# Altium integrated library Xilinx Spartan-3 FPGA.IntLib: 1115 symbols (part 3 of 7)
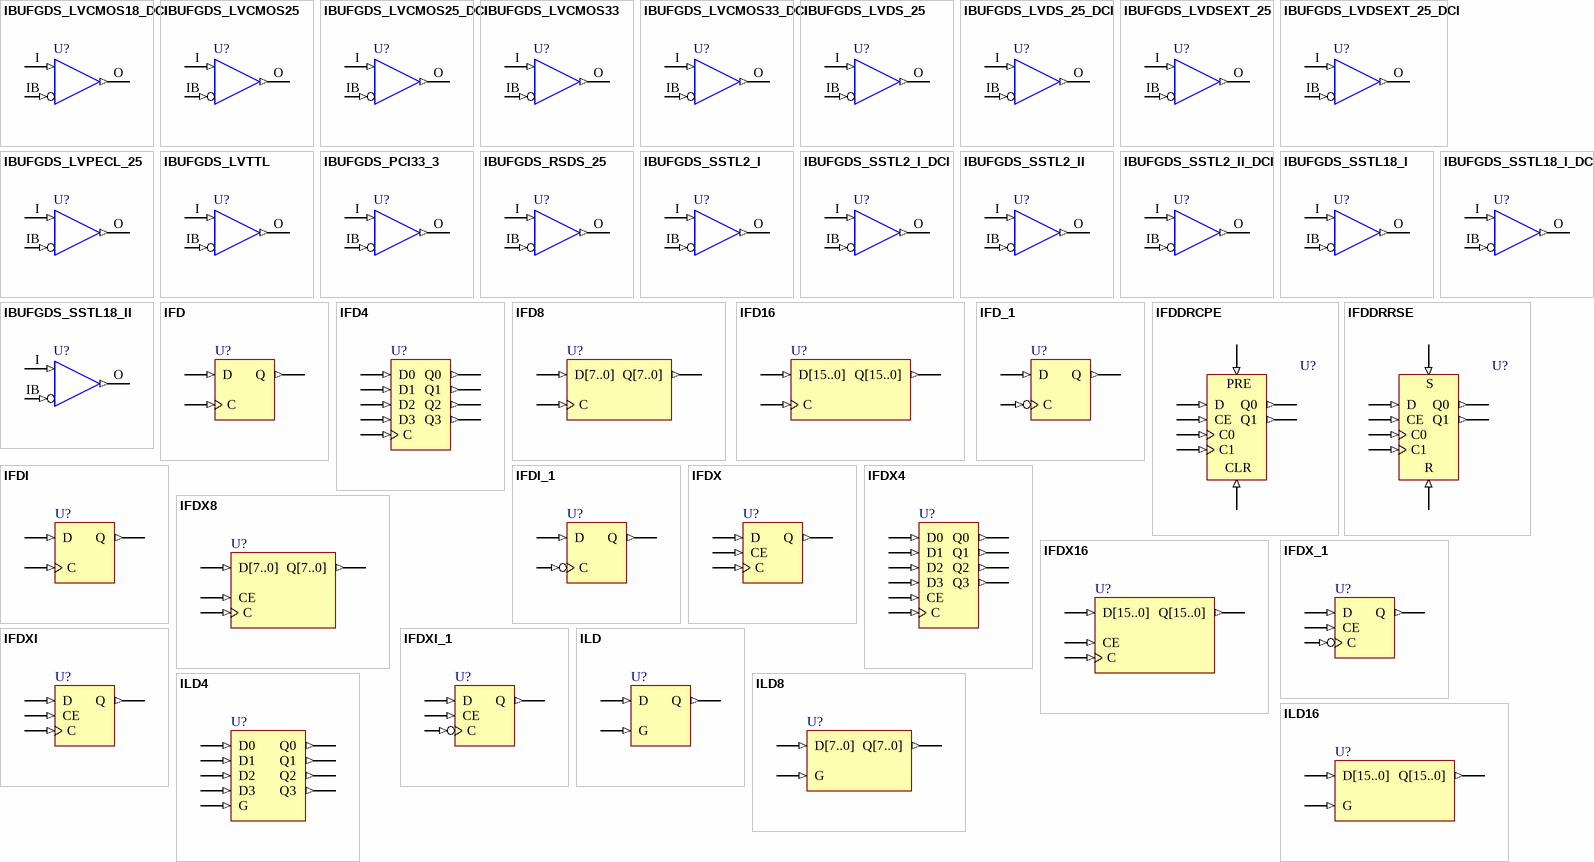
[diagram p30: symbols IBUFGDS_LVCMOS18_DCI to ILD16]

## IBUFGDS_LVPECL_25
designator U?
Dedicated Differential Signaling Input Buffer with Selectable I/O Interface; FPGAVendor: Xilinx; Published: 15-Sep-2008; Publisher: Altium Limited; HelpURL: http://www.xilinx.com/support/documentation/data_sheets/ds099.pdf
pins: I (in), IB (in), O (out)

## IBUFGDS_LVTTL
designator U?
Dedicated Differential Signaling Input Buffer with Selectable I/O Interface; FPGAVendor: Xilinx; Published: 15-Sep-2008; Publisher: Altium Limited; HelpURL: http://www.xilinx.com/support/documentation/data_sheets/ds099.pdf
pins: I (in), IB (in), O (out)

## IBUFGDS_PCI33_3
designator U?
Dedicated Differential Signaling Input Buffer with Selectable I/O Interface; FPGAVendor: Xilinx; Published: 15-Sep-2008; Publisher: Altium Limited; HelpURL: http://www.xilinx.com/support/documentation/data_sheets/ds099.pdf
pins: I (in), IB (in), O (out)

## IBUFGDS_RSDS_25
designator U?
Dedicated Differential Signaling Input Buffer with Selectable I/O Interface; FPGAVendor: Xilinx; Published: 15-Sep-2008; Publisher: Altium Limited; HelpURL: http://www.xilinx.com/support/documentation/data_sheets/ds099.pdf
pins: I (in), IB (in), O (out)

## IBUFGDS_SSTL2_I
designator U?
Dedicated Differential Signaling Input Buffer with Selectable I/O Interface; FPGAVendor: Xilinx; Published: 15-Sep-2008; Publisher: Altium Limited; HelpURL: http://www.xilinx.com/support/documentation/data_sheets/ds099.pdf
pins: I (in), IB (in), O (out)

## IBUFGDS_SSTL2_I_DCI
designator U?
Dedicated Differential Signaling Input Buffer with Selectable I/O Interface; FPGAVendor: Xilinx; Published: 15-Sep-2008; Publisher: Altium Limited; HelpURL: http://www.xilinx.com/support/documentation/data_sheets/ds099.pdf
pins: I (in), IB (in), O (out)

## IBUFGDS_SSTL2_II
designator U?
Dedicated Differential Signaling Input Buffer with Selectable I/O Interface; FPGAVendor: Xilinx; Published: 15-Sep-2008; Publisher: Altium Limited; HelpURL: http://www.xilinx.com/support/documentation/data_sheets/ds099.pdf
pins: I (in), IB (in), O (out)

## IBUFGDS_SSTL2_II_DCI
designator U?
Dedicated Differential Signaling Input Buffer with Selectable I/O Interface; FPGAVendor: Xilinx; Published: 15-Sep-2008; Publisher: Altium Limited; HelpURL: http://www.xilinx.com/support/documentation/data_sheets/ds099.pdf
pins: I (in), IB (in), O (out)

## IBUFGDS_SSTL18_I
designator U?
Dedicated Differential Signaling Input Buffer with Selectable I/O Interface; FPGAVendor: Xilinx; Published: 15-Sep-2008; Publisher: Altium Limited; HelpURL: http://www.xilinx.com/support/documentation/data_sheets/ds099.pdf
pins: I (in), IB (in), O (out)

## IBUFGDS_SSTL18_I_DCI
designator U?
Dedicated Differential Signaling Input Buffer with Selectable I/O Interface; FPGAVendor: Xilinx; Published: 15-Sep-2008; Publisher: Altium Limited; HelpURL: http://www.xilinx.com/support/documentation/data_sheets/ds099.pdf
pins: I (in), IB (in), O (out)

## IBUFGDS_SSTL18_II
designator U?
Dedicated Differential Signaling Input Buffer with Selectable I/O Interface; FPGAVendor: Xilinx; Published: 15-Sep-2008; Publisher: Altium Limited; HelpURL: http://www.xilinx.com/support/documentation/data_sheets/ds099.pdf
pins: I (in), IB (in), O (out)

## IFD
designator U?
Single-Input D Flip-Flop; FPGAVendor: Xilinx; Published: 15-Sep-2003; Publisher: Altium Limited; HelpURL: http://toolbox.xilinx.com/docsan/xilinx7/books/docs/lib/lib.pdf
pins: C (in), D (in), Q (out)

## IFD4
designator U?
Multiple-Input D Flip-Flop; FPGAVendor: Xilinx; Published: 15-Sep-2003; Publisher: Altium Limited; HelpURL: http://toolbox.xilinx.com/docsan/xilinx7/books/docs/lib/lib.pdf
pins: C (in), D0 (in), D1 (in), D2 (in), D3 (in), Q0 (out), Q1 (out), Q2 (out), Q3 (out)

## IFD8
designator U?
Multiple-Input D Flip-Flop; FPGAVendor: Xilinx; Published: 15-Sep-2003; Publisher: Altium Limited; HelpURL: http://toolbox.xilinx.com/docsan/xilinx7/books/docs/lib/lib.pdf
pins: C (in), D[7..0] (in), Q[7..0] (out)

## IFD16
designator U?
Multiple-Input D Flip-Flop; FPGAVendor: Xilinx; Published: 15-Sep-2003; Publisher: Altium Limited; HelpURL: http://toolbox.xilinx.com/docsan/xilinx7/books/docs/lib/lib.pdf
pins: C (in), D[15..0] (in), Q[15..0] (out)

## IFD_1
designator U?
Input D Flip-Flop with Inverted Clock; FPGAVendor: Xilinx; Published: 15-Sep-2003; Publisher: Altium Limited; HelpURL: http://toolbox.xilinx.com/docsan/xilinx7/books/docs/lib/lib.pdf
pins: C (in), D (in), Q (out)

## IFDDRCPE
designator U?
Dual Data Rate Input D Flip-Flop with Clock Enable and Asynchronous Preset and Clear; FPGAVendor: Xilinx; Published: 15-Sep-2003; Publisher: Altium Limited; HelpURL: http://toolbox.xilinx.com/docsan/xilinx7/books/docs/lib/lib.pdf
pins: C0 (in), C1 (in), CE (in), CLR (in), D (in), PRE (in), Q0 (out), Q1 (out)

## IFDDRRSE
designator U?
Dual Data Rate Input D Flip-Flop with Synchronous Reset and Set and Clock Enable; FPGAVendor: Xilinx; Published: 15-Sep-2003; Publisher: Altium Limited; HelpURL: http://toolbox.xilinx.com/docsan/xilinx7/books/docs/lib/lib.pdf
pins: C0 (in), C1 (in), CE (in), D (in), Q0 (out), Q1 (out), R (in), S (in)

## IFDI
designator U?
Input D Flip-Flop (Asynchronous Preset); FPGAVendor: Xilinx; Published: 15-Sep-2003; Publisher: Altium Limited; HelpURL: http://toolbox.xilinx.com/docsan/xilinx7/books/docs/lib/lib.pdf
pins: C (in), D (in), Q (out)

## IFDI_1
designator U?
Input D Flip-Flop with Inverted Clock (Asynchronous Preset); FPGAVendor: Xilinx; Published: 15-Sep-2003; Publisher: Altium Limited; HelpURL: http://toolbox.xilinx.com/docsan/xilinx7/books/docs/lib/lib.pdf
pins: C (in), D (in), Q (out)

## IFDX
designator U?
Single-Input D Flip-Flop with Clock Enable; FPGAVendor: Xilinx; Published: 15-Sep-2003; Publisher: Altium Limited; HelpURL: http://toolbox.xilinx.com/docsan/xilinx7/books/docs/lib/lib.pdf
pins: C (in), CE (in), D (in), Q (out)

## IFDX4
designator U?
Multiple-Input D Flip-Flop with Clock Enable; FPGAVendor: Xilinx; Published: 15-Sep-2003; Publisher: Altium Limited; HelpURL: http://toolbox.xilinx.com/docsan/xilinx7/books/docs/lib/lib.pdf
pins: C (in), CE (in), D0 (in), D1 (in), D2 (in), D3 (in), Q0 (out), Q1 (out), Q2 (out), Q3 (out)

## IFDX8
designator U?
Multiple-Input D Flip-Flop with Clock Enable; FPGAVendor: Xilinx; Published: 15-Sep-2003; Publisher: Altium Limited; HelpURL: http://toolbox.xilinx.com/docsan/xilinx7/books/docs/lib/lib.pdf
pins: C (in), CE (in), D[7..0] (in), Q[7..0] (out)

## IFDX16
designator U?
Multiple-Input D Flip-Flop with Clock Enable; FPGAVendor: Xilinx; Published: 15-Sep-2003; Publisher: Altium Limited; HelpURL: http://toolbox.xilinx.com/docsan/xilinx7/books/docs/lib/lib.pdf
pins: C (in), CE (in), D[15..0] (in), Q[15..0] (out)

## IFDX_1
designator U?
Input D Flip-Flop with Inverted Clock and Clock Enable; FPGAVendor: Xilinx; Published: 15-Sep-2003; Publisher: Altium Limited; HelpURL: http://toolbox.xilinx.com/docsan/xilinx7/books/docs/lib/lib.pdf
pins: C (in), CE (in), D (in), Q (out)

## IFDXI
designator U?
Input D Flip-Flop with Clock Enable (Asynchronous Preset); FPGAVendor: Xilinx; Published: 15-Sep-2003; Publisher: Altium Limited; HelpURL: http://toolbox.xilinx.com/docsan/xilinx7/books/docs/lib/lib.pdf
pins: C (in), CE (in), D (in), Q (out)

## IFDXI_1
designator U?
Input D Flip-Flop with Inverted Clock and Clock Enable (Asynchronous Preset); FPGAVendor: Xilinx; Published: 15-Sep-2003; Publisher: Altium Limited; HelpURL: http://toolbox.xilinx.com/docsan/xilinx7/books/docs/lib/lib.pdf
pins: C (in), CE (in), D (in), Q (out)

## ILD
designator U?
Transparent Input Data Latch; FPGAVendor: Xilinx; Published: 15-Sep-2003; Publisher: Altium Limited; HelpURL: http://toolbox.xilinx.com/docsan/xilinx7/books/docs/lib/lib.pdf
pins: D (in), G (in), Q (out)

## ILD4
designator U?
Transparent Input Data Latch; FPGAVendor: Xilinx; Published: 15-Sep-2003; Publisher: Altium Limited; HelpURL: http://toolbox.xilinx.com/docsan/xilinx7/books/docs/lib/lib.pdf
pins: D0 (in), D1 (in), D2 (in), D3 (in), G (in), Q0 (out), Q1 (out), Q2 (out), Q3 (out)

## ILD8
designator U?
Transparent Input Data Latch; FPGAVendor: Xilinx; Published: 15-Sep-2003; Publisher: Altium Limited; HelpURL: http://toolbox.xilinx.com/docsan/xilinx7/books/docs/lib/lib.pdf
pins: D[7..0] (in), G (in), Q[7..0] (out)

## ILD16
designator U?
Transparent Input Data Latch; FPGAVendor: Xilinx; Published: 15-Sep-2003; Publisher: Altium Limited; HelpURL: http://toolbox.xilinx.com/docsan/xilinx7/books/docs/lib/lib.pdf
pins: D[15..0] (in), G (in), Q[15..0] (out)

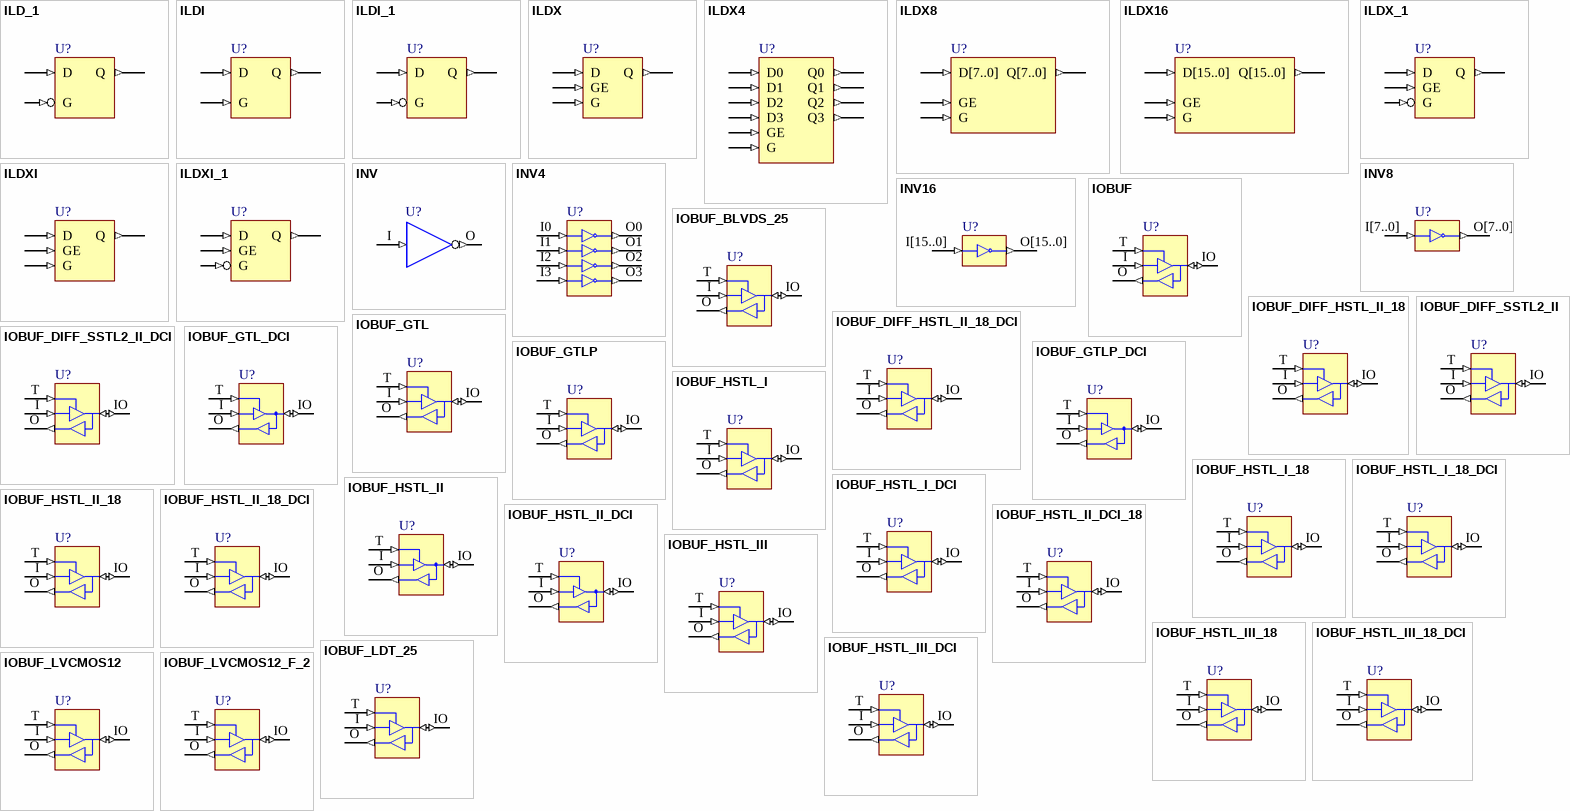
[diagram p10: symbols ILD_1 to IOBUF_LVCMOS12_F_2]

## ILD_1
designator U?
Transparent Input Data Latch with Inverted Gate; FPGAVendor: Xilinx; Published: 15-Sep-2003; Publisher: Altium Limited; HelpURL: http://toolbox.xilinx.com/docsan/xilinx7/books/docs/lib/lib.pdf
pins: D (in), G (in), Q (out)

## ILDI
designator U?
Transparent Input Data Latch (Asynchronous Preset); FPGAVendor: Xilinx; Published: 15-Sep-2003; Publisher: Altium Limited; HelpURL: http://toolbox.xilinx.com/docsan/xilinx7/books/docs/lib/lib.pdf
pins: D (in), G (in), Q (out)

## ILDI_1
designator U?
Transparent Input Data Latch with Inverted Gate (Asynchronous Preset); FPGAVendor: Xilinx; Published: 15-Sep-2003; Publisher: Altium Limited; HelpURL: http://toolbox.xilinx.com/docsan/xilinx7/books/docs/lib/lib.pdf
pins: D (in), G (in), Q (out)

## ILDX
designator U?
Transparent Input Data Latch; FPGAVendor: Xilinx; Published: 15-Sep-2003; Publisher: Altium Limited; HelpURL: http://toolbox.xilinx.com/docsan/xilinx7/books/docs/lib/lib.pdf
pins: D (in), G (in), GE (in), Q (out)

## ILDX4
designator U?
Transparent Input Data Latch; FPGAVendor: Xilinx; Published: 15-Sep-2003; Publisher: Altium Limited; HelpURL: http://toolbox.xilinx.com/docsan/xilinx7/books/docs/lib/lib.pdf
pins: D0 (in), D1 (in), D2 (in), D3 (in), G (in), GE (in), Q0 (out), Q1 (out), Q2 (out), Q3 (out)

## ILDX8
designator U?
Transparent Input Data Latch; FPGAVendor: Xilinx; Published: 15-Sep-2003; Publisher: Altium Limited; HelpURL: http://toolbox.xilinx.com/docsan/xilinx7/books/docs/lib/lib.pdf
pins: D[7..0] (in), G (in), GE (in), Q[7..0] (out)

## ILDX16
designator U?
Transparent Input Data Latch; FPGAVendor: Xilinx; Published: 15-Sep-2003; Publisher: Altium Limited; HelpURL: http://toolbox.xilinx.com/docsan/xilinx7/books/docs/lib/lib.pdf
pins: D[15..0] (in), G (in), GE (in), Q[15..0] (out)

## ILDX_1
designator U?
Transparent Input Data Latch with Inverted Gate; FPGAVendor: Xilinx; Published: 15-Sep-2003; Publisher: Altium Limited; HelpURL: http://toolbox.xilinx.com/docsan/xilinx7/books/docs/lib/lib.pdf
pins: D (in), G (in), GE (in), Q (out)

## ILDXI
designator U?
Transparent Input Data Latch (Asynchronous Preset); FPGAVendor: Xilinx; Published: 15-Sep-2003; Publisher: Altium Limited; HelpURL: http://toolbox.xilinx.com/docsan/xilinx7/books/docs/lib/lib.pdf
pins: D (in), G (in), GE (in), Q (out)

## ILDXI_1
designator U?
Transparent Input Data Latch with Inverted Gate (Asynchronous Preset); FPGAVendor: Xilinx; Published: 15-Sep-2003; Publisher: Altium Limited; HelpURL: http://toolbox.xilinx.com/docsan/xilinx7/books/docs/lib/lib.pdf
pins: D (in), G (in), GE (in), Q (out)

## INV
designator U?
Inverter; FPGAVendor: Xilinx; Published: 15-Sep-2003; Publisher: Altium Limited; HelpURL: http://toolbox.xilinx.com/docsan/xilinx7/books/docs/lib/lib.pdf
pins: I (in), O (out)

## INV4
designator U?
4 x Inverters; FPGAVendor: Xilinx; Published: 15-Sep-2003; Publisher: Altium Limited; HelpURL: http://toolbox.xilinx.com/docsan/xilinx7/books/docs/lib/lib.pdf
pins: I0 (in), I1 (in), I2 (in), I3 (in), O0 (out), O1 (out), O2 (out), O3 (out)

## INV8
designator U?
8 x Inverters; FPGAVendor: Xilinx; Published: 15-Sep-2003; Publisher: Altium Limited; HelpURL: http://toolbox.xilinx.com/docsan/xilinx7/books/docs/lib/lib.pdf
pins: I[7..0] (in), O[7..0] (out)

## INV16
designator U?
16 x Inverters; FPGAVendor: Xilinx; Published: 15-Sep-2003; Publisher: Altium Limited; HelpURL: http://toolbox.xilinx.com/docsan/xilinx7/books/docs/lib/lib.pdf
pins: I[15..0] (in), O[15..0] (out)

## IOBUF
designator U?
Bi-Directional Buffer using the LVTTL standard; FPGAVendor: Xilinx; Published: 15-Sep-2003; Publisher: Altium Limited; HelpURL: http://toolbox.xilinx.com/docsan/xilinx7/books/docs/lib/lib.pdf
pins: I (in), IO (io), O (out), T (in)

## IOBUF_BLVDS_25
designator U?
Bi-Directional Buffer with Selectable I/O Interface; FPGAVendor: Xilinx; Published: 15-Sep-2008; Publisher: Altium Limited; HelpURL: http://www.xilinx.com/support/documentation/data_sheets/ds099.pdf
pins: I (in), IO (io), O (out), T (in)

## IOBUF_DIFF_HSTL_II_18
designator U?
Bi-Directional Buffer with Selectable I/O Interface; FPGAVendor: Xilinx; Published: 15-Sep-2008; Publisher: Altium Limited; HelpURL: http://www.xilinx.com/support/documentation/data_sheets/ds099.pdf
pins: I (in), IO (io), O (out), T (in)

## IOBUF_DIFF_HSTL_II_18_DCI
designator U?
Bi-Directional Buffer with Selectable I/O Interface; FPGAVendor: Xilinx; Published: 15-Sep-2008; Publisher: Altium Limited; HelpURL: http://www.xilinx.com/support/documentation/data_sheets/ds099.pdf
pins: I (in), IO (io), O (out), T (in)

## IOBUF_DIFF_SSTL2_II
designator U?
Bi-Directional Buffer with Selectable I/O Interface; FPGAVendor: Xilinx; Published: 15-Sep-2008; Publisher: Altium Limited; HelpURL: http://www.xilinx.com/support/documentation/data_sheets/ds099.pdf
pins: I (in), IO (io), O (out), T (in)

## IOBUF_DIFF_SSTL2_II_DCI
designator U?
Bi-Directional Buffer with Selectable I/O Interface; FPGAVendor: Xilinx; Published: 15-Sep-2008; Publisher: Altium Limited; HelpURL: http://www.xilinx.com/support/documentation/data_sheets/ds099.pdf
pins: I (in), IO (io), O (out), T (in)

## IOBUF_GTL
designator U?
Bi-Directional Buffer with GTL Selectable I/O Interface; FPGAVendor: Xilinx; Published: 15-Sep-2003; Publisher: Altium Limited; HelpURL: http://toolbox.xilinx.com/docsan/xilinx7/books/docs/lib/lib.pdf
pins: I (in), IO (io), O (out), T (in)

## IOBUF_GTL_DCI
designator U?
Bi-Directional Buffer with GTL_DCI Selectable I/O Interface; FPGAVendor: Xilinx; Published: 15-Sep-2003; Publisher: Altium Limited; HelpURL: http://toolbox.xilinx.com/docsan/xilinx7/books/docs/lib/lib.pdf
pins: I (in), IO (io), O (out), T (in)

## IOBUF_GTLP
designator U?
Bi-Directional Buffer with GTLP Selectable I/O Interface; FPGAVendor: Xilinx; Published: 15-Sep-2003; Publisher: Altium Limited; HelpURL: http://toolbox.xilinx.com/docsan/xilinx7/books/docs/lib/lib.pdf
pins: I (in), IO (io), O (out), T (in)

## IOBUF_GTLP_DCI
designator U?
Bi-Directional Buffer with GTLP_DCI Selectable I/O Interface; FPGAVendor: Xilinx; Published: 15-Sep-2003; Publisher: Altium Limited; HelpURL: http://toolbox.xilinx.com/docsan/xilinx7/books/docs/lib/lib.pdf
pins: I (in), IO (io), O (out), T (in)

## IOBUF_HSTL_I
designator U?
Bi-Directional Buffer with HSTL_I Selectable I/O Interface; FPGAVendor: Xilinx; Published: 15-Sep-2003; Publisher: Altium Limited; HelpURL: http://toolbox.xilinx.com/docsan/xilinx7/books/docs/lib/lib.pdf
pins: I (in), IO (io), O (out), T (in)

## IOBUF_HSTL_I_18
designator U?
Bi-Directional Buffer with HSTL_I_18 Selectable I/O Interface; FPGAVendor: Xilinx; Published: 15-Sep-2003; Publisher: Altium Limited; HelpURL: http://toolbox.xilinx.com/docsan/xilinx7/books/docs/lib/lib.pdf
pins: I (in), IO (io), O (out), T (in)

## IOBUF_HSTL_I_18_DCI
designator U?
Bi-Directional Buffer with Selectable I/O Interface; FPGAVendor: Xilinx; Published: 15-Sep-2008; Publisher: Altium Limited; HelpURL: http://www.xilinx.com/support/documentation/data_sheets/ds099.pdf
pins: I (in), IO (io), O (out), T (in)

## IOBUF_HSTL_I_DCI
designator U?
Bi-Directional Buffer with Selectable I/O Interface; FPGAVendor: Xilinx; Published: 15-Sep-2008; Publisher: Altium Limited; HelpURL: http://www.xilinx.com/support/documentation/data_sheets/ds099.pdf
pins: I (in), IO (io), O (out), T (in)

## IOBUF_HSTL_II
designator U?
Bi-Directional Buffer with HSTL_II Selectable I/O Interface; FPGAVendor: Xilinx; Published: 15-Sep-2003; Publisher: Altium Limited; HelpURL: http://toolbox.xilinx.com/docsan/xilinx7/books/docs/lib/lib.pdf
pins: I (in), IO (io), O (out), T (in)

## IOBUF_HSTL_II_18
designator U?
Bi-Directional Buffer with HSTL_II_18 Selectable I/O Interface; FPGAVendor: Xilinx; Published: 15-Sep-2003; Publisher: Altium Limited; HelpURL: http://toolbox.xilinx.com/docsan/xilinx7/books/docs/lib/lib.pdf
pins: I (in), IO (io), O (out), T (in)

## IOBUF_HSTL_II_18_DCI
designator U?
Bi-Directional Buffer with Selectable I/O Interface; FPGAVendor: Xilinx; Published: 15-Sep-2008; Publisher: Altium Limited; HelpURL: http://www.xilinx.com/support/documentation/data_sheets/ds099.pdf
pins: I (in), IO (io), O (out), T (in)

## IOBUF_HSTL_II_DCI
designator U?
Bi-Directional Buffer with HSTL_II_DCI Selectable I/O Interface; FPGAVendor: Xilinx; Published: 15-Sep-2003; Publisher: Altium Limited; HelpURL: http://toolbox.xilinx.com/docsan/xilinx7/books/docs/lib/lib.pdf
pins: I (in), IO (io), O (out), T (in)

## IOBUF_HSTL_II_DCI_18
designator U?
Bi-Directional Buffer with HSTL_II_DCI_18 Selectable I/O Interface; FPGAVendor: Xilinx; Published: 15-Sep-2003; Publisher: Altium Limited; HelpURL: http://toolbox.xilinx.com/docsan/xilinx7/books/docs/lib/lib.pdf
pins: I (in), IO (io), O (out), T (in)

## IOBUF_HSTL_III
designator U?
Bi-Directional Buffer with HSTL_III Selectable I/O Interface; FPGAVendor: Xilinx; Published: 15-Sep-2003; Publisher: Altium Limited; HelpURL: http://toolbox.xilinx.com/docsan/xilinx7/books/docs/lib/lib.pdf
pins: I (in), IO (io), O (out), T (in)

## IOBUF_HSTL_III_18
designator U?
Bi-Directional Buffer with HSTL_III_18 Selectable I/O Interface; FPGAVendor: Xilinx; Published: 15-Sep-2003; Publisher: Altium Limited; HelpURL: http://toolbox.xilinx.com/docsan/xilinx7/books/docs/lib/lib.pdf
pins: I (in), IO (io), O (out), T (in)

## IOBUF_HSTL_III_18_DCI
designator U?
Bi-Directional Buffer with Selectable I/O Interface; FPGAVendor: Xilinx; Published: 15-Sep-2008; Publisher: Altium Limited; HelpURL: http://www.xilinx.com/support/documentation/data_sheets/ds099.pdf
pins: I (in), IO (io), O (out), T (in)

## IOBUF_HSTL_III_DCI
designator U?
Bi-Directional Buffer with Selectable I/O Interface; FPGAVendor: Xilinx; Published: 15-Sep-2008; Publisher: Altium Limited; HelpURL: http://www.xilinx.com/support/documentation/data_sheets/ds099.pdf
pins: I (in), IO (io), O (out), T (in)

## IOBUF_LDT_25
designator U?
Bi-Directional Buffer with Selectable I/O Interface; FPGAVendor: Xilinx; Published: 15-Sep-2008; Publisher: Altium Limited; HelpURL: http://www.xilinx.com/support/documentation/data_sheets/ds099.pdf
pins: I (in), IO (io), O (out), T (in)

## IOBUF_LVCMOS12
designator U?
Bi-Directional Buffer with LVCMOS12 Selectable I/O Interface; FPGAVendor: Xilinx; Published: 15-Sep-2003; Publisher: Altium Limited; HelpURL: http://toolbox.xilinx.com/docsan/xilinx7/books/docs/lib/lib.pdf
pins: I (in), IO (io), O (out), T (in)

## IOBUF_LVCMOS12_F_2
designator U?
Bi-Directional Buffer with LVCMOS12_F_2 I/O Interface; FPGAVendor: Xilinx; Published: 15-Sep-2003; Publisher: Altium Limited; HelpURL: http://toolbox.xilinx.com/docsan/xilinx7/books/docs/lib/lib.pdf
pins: I (in), IO (io), O (out), T (in)

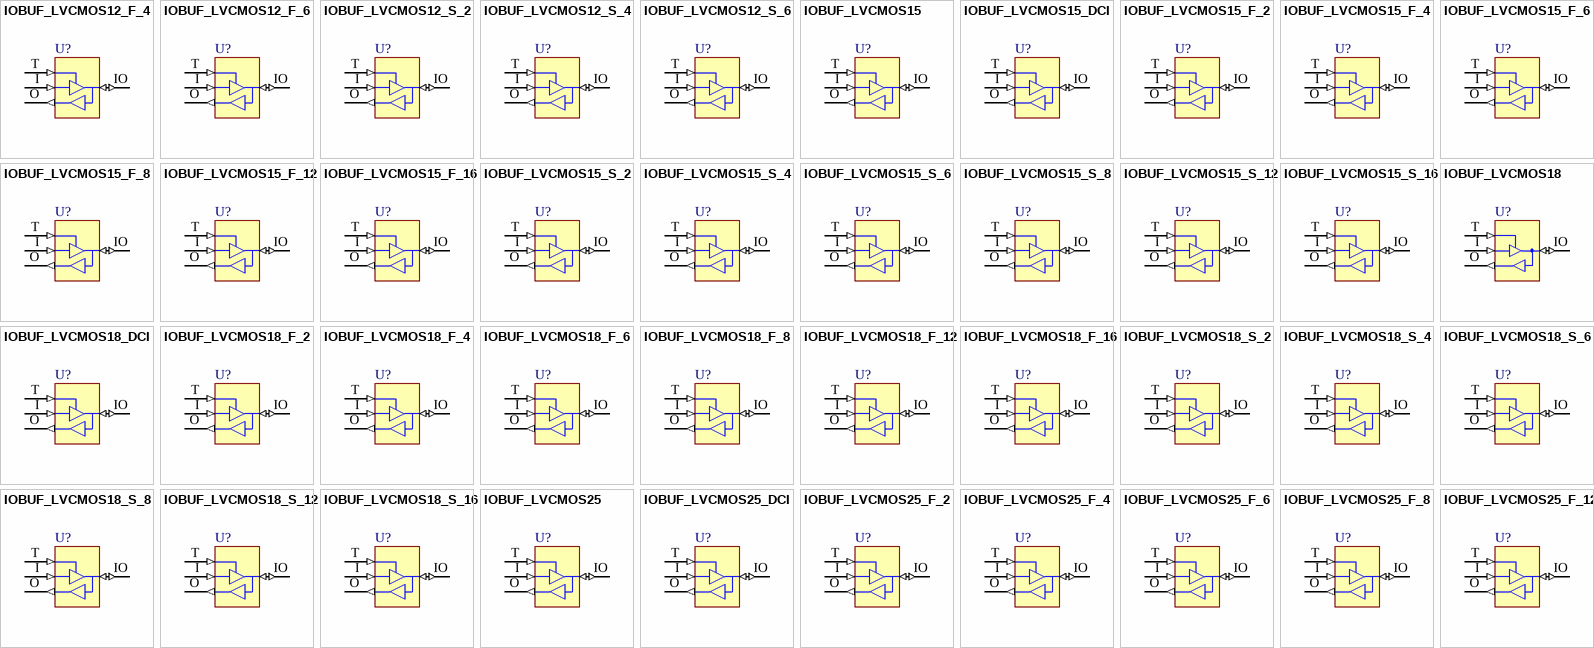
[diagram p11: symbols IOBUF_LVCMOS12_F_4 to IOBUF_LVCMOS25_F_12]

## IOBUF_LVCMOS12_F_4
designator U?
Bi-Directional Buffer with LVCMOS12_F_4 I/O Interface; FPGAVendor: Xilinx; Published: 15-Sep-2003; Publisher: Altium Limited; HelpURL: http://toolbox.xilinx.com/docsan/xilinx7/books/docs/lib/lib.pdf
pins: I (in), IO (io), O (out), T (in)

## IOBUF_LVCMOS12_F_6
designator U?
Bi-Directional Buffer with LVCMOS12_F_6 I/O Interface; FPGAVendor: Xilinx; Published: 15-Sep-2003; Publisher: Altium Limited; HelpURL: http://toolbox.xilinx.com/docsan/xilinx7/books/docs/lib/lib.pdf
pins: I (in), IO (io), O (out), T (in)

## IOBUF_LVCMOS12_S_2
designator U?
Bi-Directional Buffer with LVCMOS12_S_2 I/O Interface; FPGAVendor: Xilinx; Published: 15-Sep-2003; Publisher: Altium Limited; HelpURL: http://toolbox.xilinx.com/docsan/xilinx7/books/docs/lib/lib.pdf
pins: I (in), IO (io), O (out), T (in)

## IOBUF_LVCMOS12_S_4
designator U?
Bi-Directional Buffer with LVCMOS12_S_4 I/O Interface; FPGAVendor: Xilinx; Published: 15-Sep-2003; Publisher: Altium Limited; HelpURL: http://toolbox.xilinx.com/docsan/xilinx7/books/docs/lib/lib.pdf
pins: I (in), IO (io), O (out), T (in)

## IOBUF_LVCMOS12_S_6
designator U?
Bi-Directional Buffer with LVCMOS12_S_6 I/O Interface; FPGAVendor: Xilinx; Published: 15-Sep-2003; Publisher: Altium Limited; HelpURL: http://toolbox.xilinx.com/docsan/xilinx7/books/docs/lib/lib.pdf
pins: I (in), IO (io), O (out), T (in)

## IOBUF_LVCMOS15
designator U?
Bi-Directional Buffer with LVCMOS15 Selectable I/O Interface; FPGAVendor: Xilinx; Published: 15-Sep-2003; Publisher: Altium Limited; HelpURL: http://toolbox.xilinx.com/docsan/xilinx7/books/docs/lib/lib.pdf
pins: I (in), IO (io), O (out), T (in)

## IOBUF_LVCMOS15_DCI
designator U?
Bi-Directional Buffer with Selectable I/O Interface; FPGAVendor: Xilinx; Published: 15-Sep-2008; Publisher: Altium Limited; HelpURL: http://www.xilinx.com/support/documentation/data_sheets/ds099.pdf
pins: I (in), IO (io), O (out), T (in)

## IOBUF_LVCMOS15_F_2
designator U?
Bi-Directional Buffer with LVCMOS15_F_2 I/O Interface; FPGAVendor: Xilinx; Published: 15-Sep-2003; Publisher: Altium Limited; HelpURL: http://toolbox.xilinx.com/docsan/xilinx7/books/docs/lib/lib.pdf
pins: I (in), IO (io), O (out), T (in)

## IOBUF_LVCMOS15_F_4
designator U?
Bi-Directional Buffer with LVCMOS15_F_4 I/O Interface; FPGAVendor: Xilinx; Published: 15-Sep-2003; Publisher: Altium Limited; HelpURL: http://toolbox.xilinx.com/docsan/xilinx7/books/docs/lib/lib.pdf
pins: I (in), IO (io), O (out), T (in)

## IOBUF_LVCMOS15_F_6
designator U?
Bi-Directional Buffer with LVCMOS15_F_6 I/O Interface; FPGAVendor: Xilinx; Published: 15-Sep-2003; Publisher: Altium Limited; HelpURL: http://toolbox.xilinx.com/docsan/xilinx7/books/docs/lib/lib.pdf
pins: I (in), IO (io), O (out), T (in)

## IOBUF_LVCMOS15_F_8
designator U?
Bi-Directional Buffer with LVCMOS15_F_8 I/O Interface; FPGAVendor: Xilinx; Published: 15-Sep-2003; Publisher: Altium Limited; HelpURL: http://toolbox.xilinx.com/docsan/xilinx7/books/docs/lib/lib.pdf
pins: I (in), IO (io), O (out), T (in)

## IOBUF_LVCMOS15_F_12
designator U?
Bi-Directional Buffer with LVCMOS15_F_12 I/O Interface; FPGAVendor: Xilinx; Published: 15-Sep-2003; Publisher: Altium Limited; HelpURL: http://toolbox.xilinx.com/docsan/xilinx7/books/docs/lib/lib.pdf
pins: I (in), IO (io), O (out), T (in)

## IOBUF_LVCMOS15_F_16
designator U?
Bi-Directional Buffer with LVCMOS15_F_16 I/O Interface; FPGAVendor: Xilinx; Published: 15-Sep-2003; Publisher: Altium Limited; HelpURL: http://toolbox.xilinx.com/docsan/xilinx7/books/docs/lib/lib.pdf
pins: I (in), IO (io), O (out), T (in)

## IOBUF_LVCMOS15_S_2
designator U?
Bi-Directional Buffer with LVCMOS15_S_2 I/O Interface; FPGAVendor: Xilinx; Published: 15-Sep-2003; Publisher: Altium Limited; HelpURL: http://toolbox.xilinx.com/docsan/xilinx7/books/docs/lib/lib.pdf
pins: I (in), IO (io), O (out), T (in)

## IOBUF_LVCMOS15_S_4
designator U?
Bi-Directional Buffer with LVCMOS15_S_4 I/O Interface; FPGAVendor: Xilinx; Published: 15-Sep-2003; Publisher: Altium Limited; HelpURL: http://toolbox.xilinx.com/docsan/xilinx7/books/docs/lib/lib.pdf
pins: I (in), IO (io), O (out), T (in)

## IOBUF_LVCMOS15_S_6
designator U?
Bi-Directional Buffer with LVCMOS15_S_6 I/O Interface; FPGAVendor: Xilinx; Published: 15-Sep-2003; Publisher: Altium Limited; HelpURL: http://toolbox.xilinx.com/docsan/xilinx7/books/docs/lib/lib.pdf
pins: I (in), IO (io), O (out), T (in)

## IOBUF_LVCMOS15_S_8
designator U?
Bi-Directional Buffer with LVCMOS15_S_8 I/O Interface; FPGAVendor: Xilinx; Published: 15-Sep-2003; Publisher: Altium Limited; HelpURL: http://toolbox.xilinx.com/docsan/xilinx7/books/docs/lib/lib.pdf
pins: I (in), IO (io), O (out), T (in)

## IOBUF_LVCMOS15_S_12
designator U?
Bi-Directional Buffer with LVCMOS15_S_12 I/O Interface; FPGAVendor: Xilinx; Published: 15-Sep-2003; Publisher: Altium Limited; HelpURL: http://toolbox.xilinx.com/docsan/xilinx7/books/docs/lib/lib.pdf
pins: I (in), IO (io), O (out), T (in)

## IOBUF_LVCMOS15_S_16
designator U?
Bi-Directional Buffer with LVCMOS15_S_16 I/O Interface; FPGAVendor: Xilinx; Published: 15-Sep-2003; Publisher: Altium Limited; HelpURL: http://toolbox.xilinx.com/docsan/xilinx7/books/docs/lib/lib.pdf
pins: I (in), IO (io), O (out), T (in)

## IOBUF_LVCMOS18
designator U?
Bi-Directional Buffer with LVCMOS18 Selectable I/O Interface; FPGAVendor: Xilinx; Published: 15-Sep-2003; Publisher: Altium Limited; HelpURL: http://toolbox.xilinx.com/docsan/xilinx7/books/docs/lib/lib.pdf
pins: I (in), IO (io), O (out), T (in)

## IOBUF_LVCMOS18_DCI
designator U?
Bi-Directional Buffer with Selectable I/O Interface; FPGAVendor: Xilinx; Published: 15-Sep-2008; Publisher: Altium Limited; HelpURL: http://www.xilinx.com/support/documentation/data_sheets/ds099.pdf
pins: I (in), IO (io), O (out), T (in)

## IOBUF_LVCMOS18_F_2
designator U?
Bi-Directional Buffer with LVCMOS18_F_2 I/O Interface; FPGAVendor: Xilinx; Published: 15-Sep-2003; Publisher: Altium Limited; HelpURL: http://toolbox.xilinx.com/docsan/xilinx7/books/docs/lib/lib.pdf
pins: I (in), IO (io), O (out), T (in)

## IOBUF_LVCMOS18_F_4
designator U?
Bi-Directional Buffer with LVCMOS18_F_4 I/O Interface; FPGAVendor: Xilinx; Published: 15-Sep-2003; Publisher: Altium Limited; HelpURL: http://toolbox.xilinx.com/docsan/xilinx7/books/docs/lib/lib.pdf
pins: I (in), IO (io), O (out), T (in)

## IOBUF_LVCMOS18_F_6
designator U?
Bi-Directional Buffer with LVCMOS18_F_6 I/O Interface; FPGAVendor: Xilinx; Published: 15-Sep-2003; Publisher: Altium Limited; HelpURL: http://toolbox.xilinx.com/docsan/xilinx7/books/docs/lib/lib.pdf
pins: I (in), IO (io), O (out), T (in)

## IOBUF_LVCMOS18_F_8
designator U?
Bi-Directional Buffer with LVCMOS18_F_8 I/O Interface; FPGAVendor: Xilinx; Published: 15-Sep-2003; Publisher: Altium Limited; HelpURL: http://toolbox.xilinx.com/docsan/xilinx7/books/docs/lib/lib.pdf
pins: I (in), IO (io), O (out), T (in)

## IOBUF_LVCMOS18_F_12
designator U?
Bi-Directional Buffer with LVCMOS18_F_12 I/O Interface; FPGAVendor: Xilinx; Published: 15-Sep-2003; Publisher: Altium Limited; HelpURL: http://toolbox.xilinx.com/docsan/xilinx7/books/docs/lib/lib.pdf
pins: I (in), IO (io), O (out), T (in)

## IOBUF_LVCMOS18_F_16
designator U?
Bi-Directional Buffer with LVCMOS18_F_16 I/O Interface; FPGAVendor: Xilinx; Published: 15-Sep-2003; Publisher: Altium Limited; HelpURL: http://toolbox.xilinx.com/docsan/xilinx7/books/docs/lib/lib.pdf
pins: I (in), IO (io), O (out), T (in)

## IOBUF_LVCMOS18_S_2
designator U?
Bi-Directional Buffer with LVCMOS18_S_2 I/O Interface; FPGAVendor: Xilinx; Published: 15-Sep-2003; Publisher: Altium Limited; HelpURL: http://toolbox.xilinx.com/docsan/xilinx7/books/docs/lib/lib.pdf
pins: I (in), IO (io), O (out), T (in)

## IOBUF_LVCMOS18_S_4
designator U?
Bi-Directional Buffer with LVCMOS18_S_4 I/O Interface; FPGAVendor: Xilinx; Published: 15-Sep-2003; Publisher: Altium Limited; HelpURL: http://toolbox.xilinx.com/docsan/xilinx7/books/docs/lib/lib.pdf
pins: I (in), IO (io), O (out), T (in)

## IOBUF_LVCMOS18_S_6
designator U?
Bi-Directional Buffer with LVCMOS18_S_6 I/O Interface; FPGAVendor: Xilinx; Published: 15-Sep-2003; Publisher: Altium Limited; HelpURL: http://toolbox.xilinx.com/docsan/xilinx7/books/docs/lib/lib.pdf
pins: I (in), IO (io), O (out), T (in)

## IOBUF_LVCMOS18_S_8
designator U?
Bi-Directional Buffer with LVCMOS18_S_8 I/O Interface; FPGAVendor: Xilinx; Published: 15-Sep-2003; Publisher: Altium Limited; HelpURL: http://toolbox.xilinx.com/docsan/xilinx7/books/docs/lib/lib.pdf
pins: I (in), IO (io), O (out), T (in)

## IOBUF_LVCMOS18_S_12
designator U?
Bi-Directional Buffer with LVCMOS18_S_12 I/O Interface; FPGAVendor: Xilinx; Published: 15-Sep-2003; Publisher: Altium Limited; HelpURL: http://toolbox.xilinx.com/docsan/xilinx7/books/docs/lib/lib.pdf
pins: I (in), IO (io), O (out), T (in)

## IOBUF_LVCMOS18_S_16
designator U?
Bi-Directional Buffer with LVCMOS18_S_16 I/O Interface; FPGAVendor: Xilinx; Published: 15-Sep-2003; Publisher: Altium Limited; HelpURL: http://toolbox.xilinx.com/docsan/xilinx7/books/docs/lib/lib.pdf
pins: I (in), IO (io), O (out), T (in)

## IOBUF_LVCMOS25
designator U?
Bi-Directional Buffer with LVCMOS25 Selectable I/O Interface; FPGAVendor: Xilinx; Published: 15-Sep-2003; Publisher: Altium Limited; HelpURL: http://toolbox.xilinx.com/docsan/xilinx7/books/docs/lib/lib.pdf
pins: I (in), IO (io), O (out), T (in)

## IOBUF_LVCMOS25_DCI
designator U?
Bi-Directional Buffer with Selectable I/O Interface; FPGAVendor: Xilinx; Published: 15-Sep-2008; Publisher: Altium Limited; HelpURL: http://www.xilinx.com/support/documentation/data_sheets/ds099.pdf
pins: I (in), IO (io), O (out), T (in)

## IOBUF_LVCMOS25_F_2
designator U?
Bi-Directional Buffer with LVCMOS25_F_2 I/O Interface; FPGAVendor: Xilinx; Published: 15-Sep-2003; Publisher: Altium Limited; HelpURL: http://toolbox.xilinx.com/docsan/xilinx7/books/docs/lib/lib.pdf
pins: I (in), IO (io), O (out), T (in)

## IOBUF_LVCMOS25_F_4
designator U?
Bi-Directional Buffer with LVCMOS25_F_4 I/O Interface; FPGAVendor: Xilinx; Published: 15-Sep-2003; Publisher: Altium Limited; HelpURL: http://toolbox.xilinx.com/docsan/xilinx7/books/docs/lib/lib.pdf
pins: I (in), IO (io), O (out), T (in)

## IOBUF_LVCMOS25_F_6
designator U?
Bi-Directional Buffer with LVCMOS25_F_6 I/O Interface; FPGAVendor: Xilinx; Published: 15-Sep-2003; Publisher: Altium Limited; HelpURL: http://toolbox.xilinx.com/docsan/xilinx7/books/docs/lib/lib.pdf
pins: I (in), IO (io), O (out), T (in)

## IOBUF_LVCMOS25_F_8
designator U?
Bi-Directional Buffer with LVCMOS25_F_8 I/O Interface; FPGAVendor: Xilinx; Published: 15-Sep-2003; Publisher: Altium Limited; HelpURL: http://toolbox.xilinx.com/docsan/xilinx7/books/docs/lib/lib.pdf
pins: I (in), IO (io), O (out), T (in)

## IOBUF_LVCMOS25_F_12
designator U?
Bi-Directional Buffer with LVCMOS25_F_12 I/O Interface; FPGAVendor: Xilinx; Published: 15-Sep-2003; Publisher: Altium Limited; HelpURL: http://toolbox.xilinx.com/docsan/xilinx7/books/docs/lib/lib.pdf
pins: I (in), IO (io), O (out), T (in)

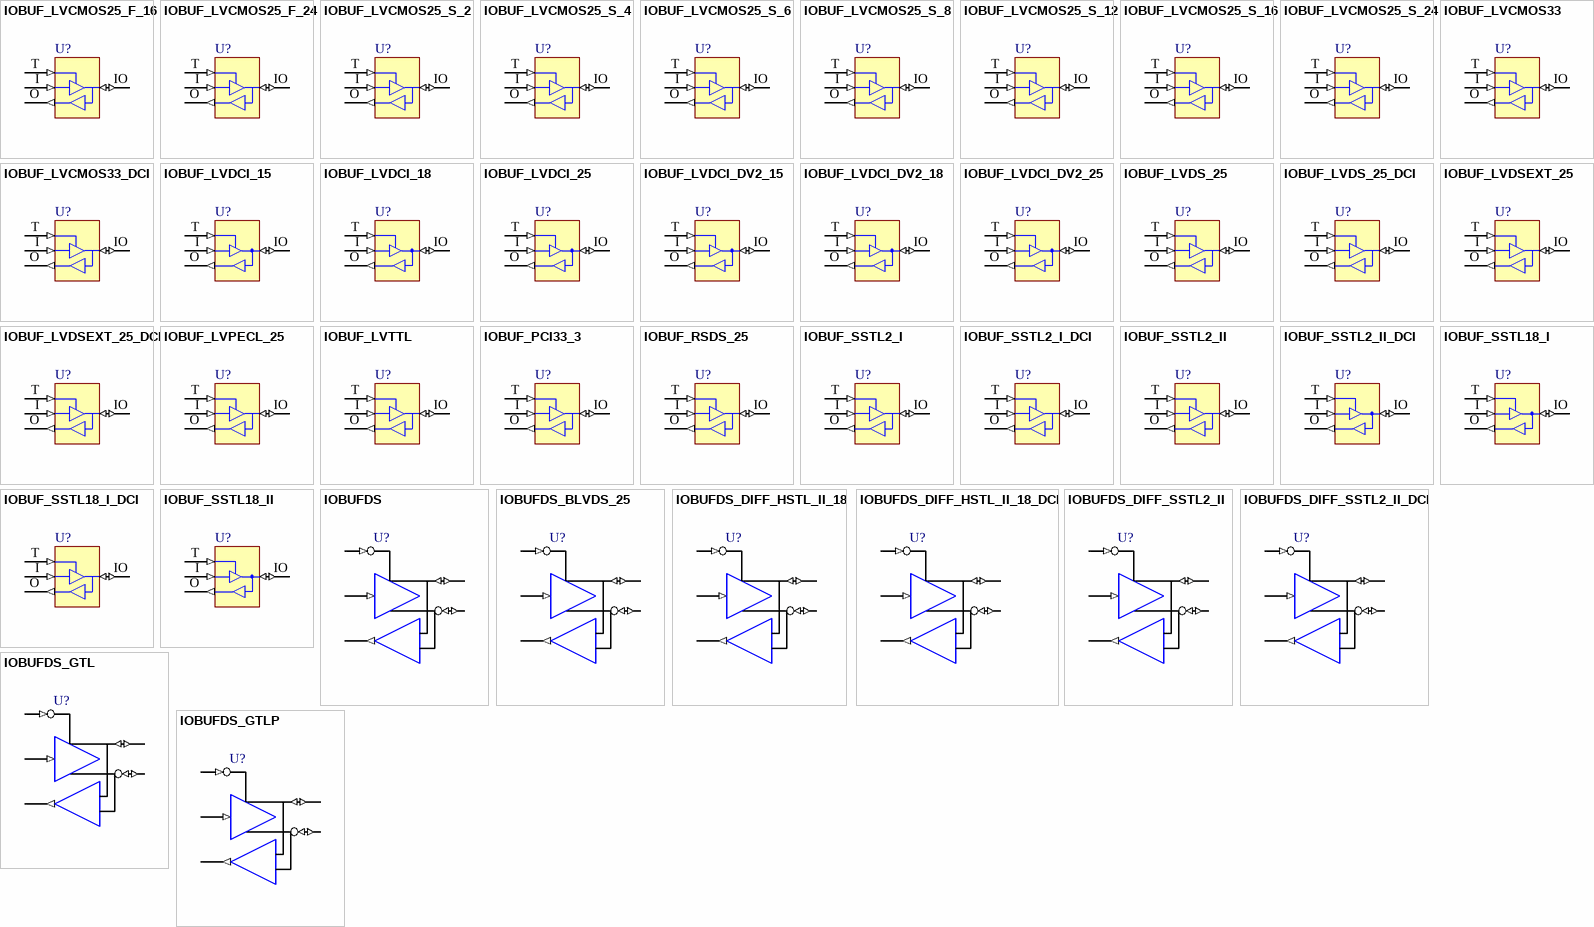
[diagram p12: symbols IOBUF_LVCMOS25_F_16 to IOBUFDS_GTLP]

## IOBUF_LVCMOS25_F_16
designator U?
Bi-Directional Buffer with LVCMOS25_F_16 I/O Interface; FPGAVendor: Xilinx; Published: 15-Sep-2003; Publisher: Altium Limited; HelpURL: http://toolbox.xilinx.com/docsan/xilinx7/books/docs/lib/lib.pdf
pins: I (in), IO (io), O (out), T (in)

## IOBUF_LVCMOS25_F_24
designator U?
Bi-Directional Buffer with LVCMOS25_F_24 I/O Interface; FPGAVendor: Xilinx; Published: 15-Sep-2003; Publisher: Altium Limited; HelpURL: http://toolbox.xilinx.com/docsan/xilinx7/books/docs/lib/lib.pdf
pins: I (in), IO (io), O (out), T (in)

## IOBUF_LVCMOS25_S_2
designator U?
Bi-Directional Buffer with LVCMOS25_S_2 I/O Interface; FPGAVendor: Xilinx; Published: 15-Sep-2003; Publisher: Altium Limited; HelpURL: http://toolbox.xilinx.com/docsan/xilinx7/books/docs/lib/lib.pdf
pins: I (in), IO (io), O (out), T (in)

## IOBUF_LVCMOS25_S_4
designator U?
Bi-Directional Buffer with LVCMOS25_S_4 I/O Interface; FPGAVendor: Xilinx; Published: 15-Sep-2003; Publisher: Altium Limited; HelpURL: http://toolbox.xilinx.com/docsan/xilinx7/books/docs/lib/lib.pdf
pins: I (in), IO (io), O (out), T (in)

## IOBUF_LVCMOS25_S_6
designator U?
Bi-Directional Buffer with LVCMOS25_S_6 I/O Interface; FPGAVendor: Xilinx; Published: 15-Sep-2003; Publisher: Altium Limited; HelpURL: http://toolbox.xilinx.com/docsan/xilinx7/books/docs/lib/lib.pdf
pins: I (in), IO (io), O (out), T (in)

## IOBUF_LVCMOS25_S_8
designator U?
Bi-Directional Buffer with LVCMOS25_S_8 I/O Interface; FPGAVendor: Xilinx; Published: 15-Sep-2003; Publisher: Altium Limited; HelpURL: http://toolbox.xilinx.com/docsan/xilinx7/books/docs/lib/lib.pdf
pins: I (in), IO (io), O (out), T (in)

## IOBUF_LVCMOS25_S_12
designator U?
Bi-Directional Buffer with LVCMOS25_S_12 I/O Interface; FPGAVendor: Xilinx; Published: 15-Sep-2003; Publisher: Altium Limited; HelpURL: http://toolbox.xilinx.com/docsan/xilinx7/books/docs/lib/lib.pdf
pins: I (in), IO (io), O (out), T (in)

## IOBUF_LVCMOS25_S_16
designator U?
Bi-Directional Buffer with LVCMOS25_S_16 I/O Interface; FPGAVendor: Xilinx; Published: 15-Sep-2003; Publisher: Altium Limited; HelpURL: http://toolbox.xilinx.com/docsan/xilinx7/books/docs/lib/lib.pdf
pins: I (in), IO (io), O (out), T (in)

## IOBUF_LVCMOS25_S_24
designator U?
Bi-Directional Buffer with LVCMOS25_S_24 I/O Interface; FPGAVendor: Xilinx; Published: 15-Sep-2003; Publisher: Altium Limited; HelpURL: http://toolbox.xilinx.com/docsan/xilinx7/books/docs/lib/lib.pdf
pins: I (in), IO (io), O (out), T (in)

## IOBUF_LVCMOS33
designator U?
Bi-Directional Buffer with Selectable I/O Interface; FPGAVendor: Xilinx; Published: 15-Sep-2008; Publisher: Altium Limited; HelpURL: http://www.xilinx.com/support/documentation/data_sheets/ds099.pdf
pins: I (in), IO (io), O (out), T (in)

## IOBUF_LVCMOS33_DCI
designator U?
Bi-Directional Buffer with Selectable I/O Interface; FPGAVendor: Xilinx; Published: 15-Sep-2008; Publisher: Altium Limited; HelpURL: http://www.xilinx.com/support/documentation/data_sheets/ds099.pdf
pins: I (in), IO (io), O (out), T (in)

## IOBUF_LVDCI_15
designator U?
Bi-Directional Buffer with LVDCI_15 Selectable I/O Interface; FPGAVendor: Xilinx; Published: 15-Sep-2003; Publisher: Altium Limited; HelpURL: http://toolbox.xilinx.com/docsan/xilinx7/books/docs/lib/lib.pdf
pins: I (in), IO (io), O (out), T (in)

## IOBUF_LVDCI_18
designator U?
Bi-Directional Buffer with LVDCI_18 Selectable I/O Interface; FPGAVendor: Xilinx; Published: 15-Sep-2003; Publisher: Altium Limited; HelpURL: http://toolbox.xilinx.com/docsan/xilinx7/books/docs/lib/lib.pdf
pins: I (in), IO (io), O (out), T (in)

## IOBUF_LVDCI_25
designator U?
Bi-Directional Buffer with LVDCI_25 Selectable I/O Interface; FPGAVendor: Xilinx; Published: 15-Sep-2003; Publisher: Altium Limited; HelpURL: http://toolbox.xilinx.com/docsan/xilinx7/books/docs/lib/lib.pdf
pins: I (in), IO (io), O (out), T (in)

## IOBUF_LVDCI_DV2_15
designator U?
Bi-Directional Buffer with LVDCI_DV2_15 Selectable I/O Interface; FPGAVendor: Xilinx; Published: 15-Sep-2003; Publisher: Altium Limited; HelpURL: http://toolbox.xilinx.com/docsan/xilinx7/books/docs/lib/lib.pdf
pins: I (in), IO (io), O (out), T (in)

## IOBUF_LVDCI_DV2_18
designator U?
Bi-Directional Buffer with LVDCI_DV2_18 Selectable I/O Interface; FPGAVendor: Xilinx; Published: 15-Sep-2003; Publisher: Altium Limited; HelpURL: http://toolbox.xilinx.com/docsan/xilinx7/books/docs/lib/lib.pdf
pins: I (in), IO (io), O (out), T (in)

## IOBUF_LVDCI_DV2_25
designator U?
Bi-Directional Buffer with LVDCI_DV2_25 Selectable I/O Interface; FPGAVendor: Xilinx; Published: 15-Sep-2003; Publisher: Altium Limited; HelpURL: http://toolbox.xilinx.com/docsan/xilinx7/books/docs/lib/lib.pdf
pins: I (in), IO (io), O (out), T (in)

## IOBUF_LVDS_25
designator U?
Bi-Directional Buffer with Selectable I/O Interface; FPGAVendor: Xilinx; Published: 15-Sep-2008; Publisher: Altium Limited; HelpURL: http://www.xilinx.com/support/documentation/data_sheets/ds099.pdf
pins: I (in), IO (io), O (out), T (in)

## IOBUF_LVDS_25_DCI
designator U?
Bi-Directional Buffer with Selectable I/O Interface; FPGAVendor: Xilinx; Published: 15-Sep-2008; Publisher: Altium Limited; HelpURL: http://www.xilinx.com/support/documentation/data_sheets/ds099.pdf
pins: I (in), IO (io), O (out), T (in)

## IOBUF_LVDSEXT_25
designator U?
Bi-Directional Buffer with Selectable I/O Interface; FPGAVendor: Xilinx; Published: 15-Sep-2008; Publisher: Altium Limited; HelpURL: http://www.xilinx.com/support/documentation/data_sheets/ds099.pdf
pins: I (in), IO (io), O (out), T (in)

## IOBUF_LVDSEXT_25_DCI
designator U?
Bi-Directional Buffer with Selectable I/O Interface; FPGAVendor: Xilinx; Published: 15-Sep-2008; Publisher: Altium Limited; HelpURL: http://www.xilinx.com/support/documentation/data_sheets/ds099.pdf
pins: I (in), IO (io), O (out), T (in)

## IOBUF_LVPECL_25
designator U?
Bi-Directional Buffer with Selectable I/O Interface; FPGAVendor: Xilinx; Published: 15-Sep-2008; Publisher: Altium Limited; HelpURL: http://www.xilinx.com/support/documentation/data_sheets/ds099.pdf
pins: I (in), IO (io), O (out), T (in)

## IOBUF_LVTTL
designator U?
Bi-Directional Buffer with Selectable I/O Interface; FPGAVendor: Xilinx; Published: 15-Sep-2008; Publisher: Altium Limited; HelpURL: http://www.xilinx.com/support/documentation/data_sheets/ds099.pdf
pins: I (in), IO (io), O (out), T (in)

## IOBUF_PCI33_3
designator U?
Bi-Directional Buffer with Selectable I/O Interface; FPGAVendor: Xilinx; Published: 15-Sep-2008; Publisher: Altium Limited; HelpURL: http://www.xilinx.com/support/documentation/data_sheets/ds099.pdf
pins: I (in), IO (io), O (out), T (in)

## IOBUF_RSDS_25
designator U?
Bi-Directional Buffer with Selectable I/O Interface; FPGAVendor: Xilinx; Published: 15-Sep-2008; Publisher: Altium Limited; HelpURL: http://www.xilinx.com/support/documentation/data_sheets/ds099.pdf
pins: I (in), IO (io), O (out), T (in)

## IOBUF_SSTL2_I
designator U?
Bi-Directional Buffer with SSTL2_I Selectable I/O Interface; FPGAVendor: Xilinx; Published: 15-Sep-2003; Publisher: Altium Limited; HelpURL: http://toolbox.xilinx.com/docsan/xilinx7/books/docs/lib/lib.pdf
pins: I (in), IO (io), O (out), T (in)

## IOBUF_SSTL2_I_DCI
designator U?
Bi-Directional Buffer with Selectable I/O Interface; FPGAVendor: Xilinx; Published: 15-Sep-2008; Publisher: Altium Limited; HelpURL: http://www.xilinx.com/support/documentation/data_sheets/ds099.pdf
pins: I (in), IO (io), O (out), T (in)

## IOBUF_SSTL2_II
designator U?
Bi-Directional Buffer with SSTL2_II Selectable I/O Interface; FPGAVendor: Xilinx; Published: 15-Sep-2003; Publisher: Altium Limited; HelpURL: http://toolbox.xilinx.com/docsan/xilinx7/books/docs/lib/lib.pdf
pins: I (in), IO (io), O (out), T (in)

## IOBUF_SSTL2_II_DCI
designator U?
Bi-Directional Buffer with SSTL2_II_DCI Selectable I/O Interface; FPGAVendor: Xilinx; Published: 15-Sep-2003; Publisher: Altium Limited; HelpURL: http://toolbox.xilinx.com/docsan/xilinx7/books/docs/lib/lib.pdf
pins: I (in), IO (io), O (out), T (in)

## IOBUF_SSTL18_I
designator U?
Bi-Directional Buffer with SSTL18_I Selectable I/O Interface; FPGAVendor: Xilinx; Published: 15-Sep-2003; Publisher: Altium Limited; HelpURL: http://toolbox.xilinx.com/docsan/xilinx7/books/docs/lib/lib.pdf
pins: I (in), IO (io), O (out), T (in)

## IOBUF_SSTL18_I_DCI
designator U?
Bi-Directional Buffer with Selectable I/O Interface; FPGAVendor: Xilinx; Published: 15-Sep-2008; Publisher: Altium Limited; HelpURL: http://www.xilinx.com/support/documentation/data_sheets/ds099.pdf
pins: I (in), IO (io), O (out), T (in)

## IOBUF_SSTL18_II
designator U?
Bi-Directional Buffer with SSTL18_II Selectable I/O Interface; FPGAVendor: Xilinx; Published: 15-Sep-2003; Publisher: Altium Limited; HelpURL: http://toolbox.xilinx.com/docsan/xilinx7/books/docs/lib/lib.pdf
pins: I (in), IO (io), O (out), T (in)

## IOBUFDS
designator U?
3-State Differential Signaling I/O Buffer with Active Low Output Enable; FPGAVendor: Xilinx; Published: 15-Sep-2003; Publisher: Altium Limited; HelpURL: http://toolbox.xilinx.com/docsan/xilinx7/books/docs/lib/lib.pdf
pins: I (in), IO (io), IOB (io), O (out), T (in)

## IOBUFDS_BLVDS_25
designator U?
3-State Differential Signaling I/O Buffer with Active Low Output Enable and Selectable I/O Interface; FPGAVendor: Xilinx; Published: 15-Sep-2008; Publisher: Altium Limited; HelpURL: http://www.xilinx.com/support/documentation/data_sheets/ds099.pdf
pins: I (in), IO (io), IOB (io), O (out), T (in)

## IOBUFDS_DIFF_HSTL_II_18
designator U?
3-State Differential Signaling I/O Buffer with Active Low Output Enable and Selectable I/O Interface; FPGAVendor: Xilinx; Published: 15-Sep-2008; Publisher: Altium Limited; HelpURL: http://www.xilinx.com/support/documentation/data_sheets/ds099.pdf
pins: I (in), IO (io), IOB (io), O (out), T (in)

## IOBUFDS_DIFF_HSTL_II_18_DCI
designator U?
3-State Differential Signaling I/O Buffer with Active Low Output Enable and Selectable I/O Interface; FPGAVendor: Xilinx; Published: 15-Sep-2008; Publisher: Altium Limited; HelpURL: http://www.xilinx.com/support/documentation/data_sheets/ds099.pdf
pins: I (in), IO (io), IOB (io), O (out), T (in)

## IOBUFDS_DIFF_SSTL2_II
designator U?
3-State Differential Signaling I/O Buffer with Active Low Output Enable and Selectable I/O Interface; FPGAVendor: Xilinx; Published: 15-Sep-2008; Publisher: Altium Limited; HelpURL: http://www.xilinx.com/support/documentation/data_sheets/ds099.pdf
pins: I (in), IO (io), IOB (io), O (out), T (in)

## IOBUFDS_DIFF_SSTL2_II_DCI
designator U?
3-State Differential Signaling I/O Buffer with Active Low Output Enable and Selectable I/O Interface; FPGAVendor: Xilinx; Published: 15-Sep-2008; Publisher: Altium Limited; HelpURL: http://www.xilinx.com/support/documentation/data_sheets/ds099.pdf
pins: I (in), IO (io), IOB (io), O (out), T (in)

## IOBUFDS_GTL
designator U?
3-State Differential Signaling I/O Buffer with Active Low Output Enable and Selectable I/O Interface; FPGAVendor: Xilinx; Published: 15-Sep-2008; Publisher: Altium Limited; HelpURL: http://www.xilinx.com/support/documentation/data_sheets/ds099.pdf
pins: I (in), IO (io), IOB (io), O (out), T (in)

## IOBUFDS_GTLP
designator U?
3-State Differential Signaling I/O Buffer with Active Low Output Enable and Selectable I/O Interface; FPGAVendor: Xilinx; Published: 15-Sep-2008; Publisher: Altium Limited; HelpURL: http://www.xilinx.com/support/documentation/data_sheets/ds099.pdf
pins: I (in), IO (io), IOB (io), O (out), T (in)

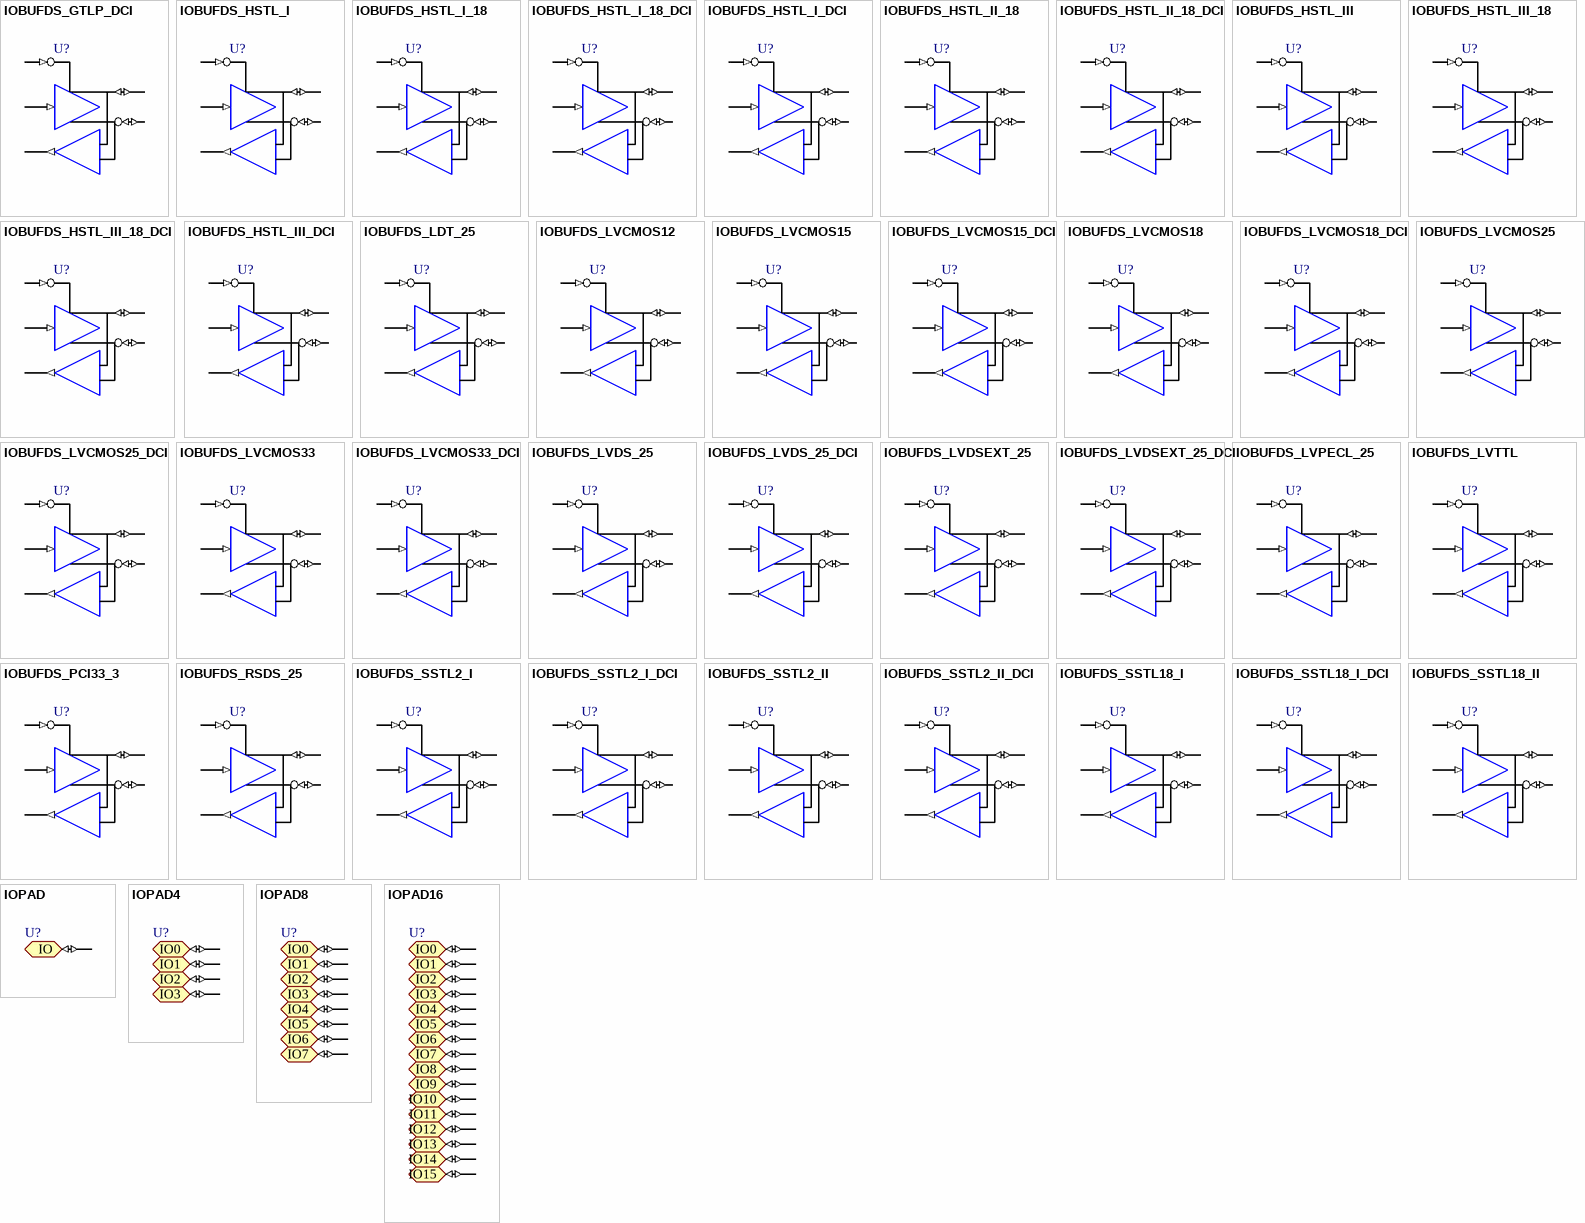
[diagram p13: symbols IOBUFDS_GTLP_DCI to IOPAD16]

## IOBUFDS_GTLP_DCI
designator U?
3-State Differential Signaling I/O Buffer with Active Low Output Enable and Selectable I/O Interface; FPGAVendor: Xilinx; Published: 15-Sep-2008; Publisher: Altium Limited; HelpURL: http://www.xilinx.com/support/documentation/data_sheets/ds099.pdf
pins: I (in), IO (io), IOB (io), O (out), T (in)

## IOBUFDS_HSTL_I
designator U?
3-State Differential Signaling I/O Buffer with Active Low Output Enable and Selectable I/O Interface; FPGAVendor: Xilinx; Published: 15-Sep-2008; Publisher: Altium Limited; HelpURL: http://www.xilinx.com/support/documentation/data_sheets/ds099.pdf
pins: I (in), IO (io), IOB (io), O (out), T (in)

## IOBUFDS_HSTL_I_18
designator U?
3-State Differential Signaling I/O Buffer with Active Low Output Enable and Selectable I/O Interface; FPGAVendor: Xilinx; Published: 15-Sep-2008; Publisher: Altium Limited; HelpURL: http://www.xilinx.com/support/documentation/data_sheets/ds099.pdf
pins: I (in), IO (io), IOB (io), O (out), T (in)

## IOBUFDS_HSTL_I_18_DCI
designator U?
3-State Differential Signaling I/O Buffer with Active Low Output Enable and Selectable I/O Interface; FPGAVendor: Xilinx; Published: 15-Sep-2008; Publisher: Altium Limited; HelpURL: http://www.xilinx.com/support/documentation/data_sheets/ds099.pdf
pins: I (in), IO (io), IOB (io), O (out), T (in)

## IOBUFDS_HSTL_I_DCI
designator U?
3-State Differential Signaling I/O Buffer with Active Low Output Enable and Selectable I/O Interface; FPGAVendor: Xilinx; Published: 15-Sep-2008; Publisher: Altium Limited; HelpURL: http://www.xilinx.com/support/documentation/data_sheets/ds099.pdf
pins: I (in), IO (io), IOB (io), O (out), T (in)

## IOBUFDS_HSTL_II_18
designator U?
3-State Differential Signaling I/O Buffer with Active Low Output Enable and Selectable I/O Interface; FPGAVendor: Xilinx; Published: 15-Sep-2008; Publisher: Altium Limited; HelpURL: http://www.xilinx.com/support/documentation/data_sheets/ds099.pdf
pins: I (in), IO (io), IOB (io), O (out), T (in)

## IOBUFDS_HSTL_II_18_DCI
designator U?
3-State Differential Signaling I/O Buffer with Active Low Output Enable and Selectable I/O Interface; FPGAVendor: Xilinx; Published: 15-Sep-2008; Publisher: Altium Limited; HelpURL: http://www.xilinx.com/support/documentation/data_sheets/ds099.pdf
pins: I (in), IO (io), IOB (io), O (out), T (in)

## IOBUFDS_HSTL_III
designator U?
3-State Differential Signaling I/O Buffer with Active Low Output Enable and Selectable I/O Interface; FPGAVendor: Xilinx; Published: 15-Sep-2008; Publisher: Altium Limited; HelpURL: http://www.xilinx.com/support/documentation/data_sheets/ds099.pdf
pins: I (in), IO (io), IOB (io), O (out), T (in)

## IOBUFDS_HSTL_III_18
designator U?
3-State Differential Signaling I/O Buffer with Active Low Output Enable and Selectable I/O Interface; FPGAVendor: Xilinx; Published: 15-Sep-2008; Publisher: Altium Limited; HelpURL: http://www.xilinx.com/support/documentation/data_sheets/ds099.pdf
pins: I (in), IO (io), IOB (io), O (out), T (in)

## IOBUFDS_HSTL_III_18_DCI
designator U?
3-State Differential Signaling I/O Buffer with Active Low Output Enable and Selectable I/O Interface; FPGAVendor: Xilinx; Published: 15-Sep-2008; Publisher: Altium Limited; HelpURL: http://www.xilinx.com/support/documentation/data_sheets/ds099.pdf
pins: I (in), IO (io), IOB (io), O (out), T (in)

## IOBUFDS_HSTL_III_DCI
designator U?
3-State Differential Signaling I/O Buffer with Active Low Output Enable and Selectable I/O Interface; FPGAVendor: Xilinx; Published: 15-Sep-2008; Publisher: Altium Limited; HelpURL: http://www.xilinx.com/support/documentation/data_sheets/ds099.pdf
pins: I (in), IO (io), IOB (io), O (out), T (in)

## IOBUFDS_LDT_25
designator U?
3-State Differential Signaling I/O Buffer with Active Low Output Enable and Selectable I/O Interface; FPGAVendor: Xilinx; Published: 15-Sep-2008; Publisher: Altium Limited; HelpURL: http://www.xilinx.com/support/documentation/data_sheets/ds099.pdf
pins: I (in), IO (io), IOB (io), O (out), T (in)

## IOBUFDS_LVCMOS12
designator U?
3-State Differential Signaling I/O Buffer with Active Low Output Enable and Selectable I/O Interface; FPGAVendor: Xilinx; Published: 15-Sep-2008; Publisher: Altium Limited; HelpURL: http://www.xilinx.com/support/documentation/data_sheets/ds099.pdf
pins: I (in), IO (io), IOB (io), O (out), T (in)

## IOBUFDS_LVCMOS15
designator U?
3-State Differential Signaling I/O Buffer with Active Low Output Enable and Selectable I/O Interface; FPGAVendor: Xilinx; Published: 15-Sep-2008; Publisher: Altium Limited; HelpURL: http://www.xilinx.com/support/documentation/data_sheets/ds099.pdf
pins: I (in), IO (io), IOB (io), O (out), T (in)

## IOBUFDS_LVCMOS15_DCI
designator U?
3-State Differential Signaling I/O Buffer with Active Low Output Enable and Selectable I/O Interface; FPGAVendor: Xilinx; Published: 15-Sep-2008; Publisher: Altium Limited; HelpURL: http://www.xilinx.com/support/documentation/data_sheets/ds099.pdf
pins: I (in), IO (io), IOB (io), O (out), T (in)

## IOBUFDS_LVCMOS18
designator U?
3-State Differential Signaling I/O Buffer with Active Low Output Enable and Selectable I/O Interface; FPGAVendor: Xilinx; Published: 15-Sep-2008; Publisher: Altium Limited; HelpURL: http://www.xilinx.com/support/documentation/data_sheets/ds099.pdf
pins: I (in), IO (io), IOB (io), O (out), T (in)

## IOBUFDS_LVCMOS18_DCI
designator U?
3-State Differential Signaling I/O Buffer with Active Low Output Enable and Selectable I/O Interface; FPGAVendor: Xilinx; Published: 15-Sep-2008; Publisher: Altium Limited; HelpURL: http://www.xilinx.com/support/documentation/data_sheets/ds099.pdf
pins: I (in), IO (io), IOB (io), O (out), T (in)

## IOBUFDS_LVCMOS25
designator U?
3-State Differential Signaling I/O Buffer with Active Low Output Enable and Selectable I/O Interface; FPGAVendor: Xilinx; Published: 15-Sep-2008; Publisher: Altium Limited; HelpURL: http://www.xilinx.com/support/documentation/data_sheets/ds099.pdf
pins: I (in), IO (io), IOB (io), O (out), T (in)

## IOBUFDS_LVCMOS25_DCI
designator U?
3-State Differential Signaling I/O Buffer with Active Low Output Enable and Selectable I/O Interface; FPGAVendor: Xilinx; Published: 15-Sep-2008; Publisher: Altium Limited; HelpURL: http://www.xilinx.com/support/documentation/data_sheets/ds099.pdf
pins: I (in), IO (io), IOB (io), O (out), T (in)

## IOBUFDS_LVCMOS33
designator U?
3-State Differential Signaling I/O Buffer with Active Low Output Enable and Selectable I/O Interface; FPGAVendor: Xilinx; Published: 15-Sep-2008; Publisher: Altium Limited; HelpURL: http://www.xilinx.com/support/documentation/data_sheets/ds099.pdf
pins: I (in), IO (io), IOB (io), O (out), T (in)

## IOBUFDS_LVCMOS33_DCI
designator U?
3-State Differential Signaling I/O Buffer with Active Low Output Enable and Selectable I/O Interface; FPGAVendor: Xilinx; Published: 15-Sep-2008; Publisher: Altium Limited; HelpURL: http://www.xilinx.com/support/documentation/data_sheets/ds099.pdf
pins: I (in), IO (io), IOB (io), O (out), T (in)

## IOBUFDS_LVDS_25
designator U?
3-State Differential Signaling I/O Buffer with Active Low Output Enable and Selectable I/O Interface; FPGAVendor: Xilinx; Published: 15-Sep-2008; Publisher: Altium Limited; HelpURL: http://www.xilinx.com/support/documentation/data_sheets/ds099.pdf
pins: I (in), IO (io), IOB (io), O (out), T (in)

## IOBUFDS_LVDS_25_DCI
designator U?
3-State Differential Signaling I/O Buffer with Active Low Output Enable and Selectable I/O Interface; FPGAVendor: Xilinx; Published: 15-Sep-2008; Publisher: Altium Limited; HelpURL: http://www.xilinx.com/support/documentation/data_sheets/ds099.pdf
pins: I (in), IO (io), IOB (io), O (out), T (in)

## IOBUFDS_LVDSEXT_25
designator U?
3-State Differential Signaling I/O Buffer with Active Low Output Enable and Selectable I/O Interface; FPGAVendor: Xilinx; Published: 15-Sep-2008; Publisher: Altium Limited; HelpURL: http://www.xilinx.com/support/documentation/data_sheets/ds099.pdf
pins: I (in), IO (io), IOB (io), O (out), T (in)